# EAGLE library part LM3886 (library linear)
Audio Power Amplifier National Overture Series High-Performance 68W Audio Power Amplifier w/Mute
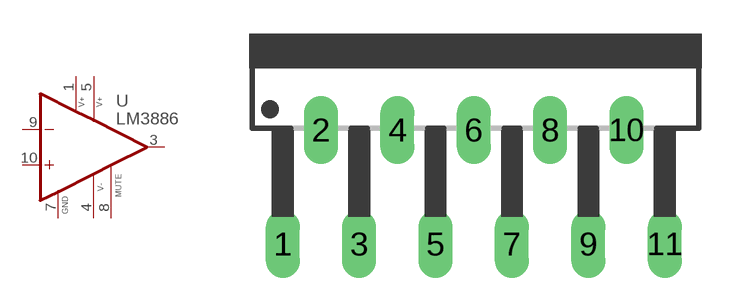
[diagram p210: symbol with the pads of TA11B; footprint TA11B]

Designator prefix U

## LM3886  [TA11B]
1  V+  pwr
3  OUT  out
4  V-  pwr
5  V+  pwr
7  GND  pwr
8  MUTE  pas
9  -IN  in
10  +IN  in

## Footprint TA11B (pad centres in mm)
TO-220 11 lead, National Semiconductor
drill 1.016 long: 1 -8.509,-7.62; 2 -6.807,-2.54; 3 -5.105,-7.62; 4 -3.404,-2.54; 5 -1.702,-7.62; 6 0,-2.54; 7 1.702,-7.62; 8 3.404,-2.54; 9 5.105,-7.62; 10 6.807,-2.54; 11 8.509,-7.62